# Altium schematic symbol library SIM900D.SchLib: 1 symbol
Pins are listed as number, name and electrical type; pins without a type are passive.

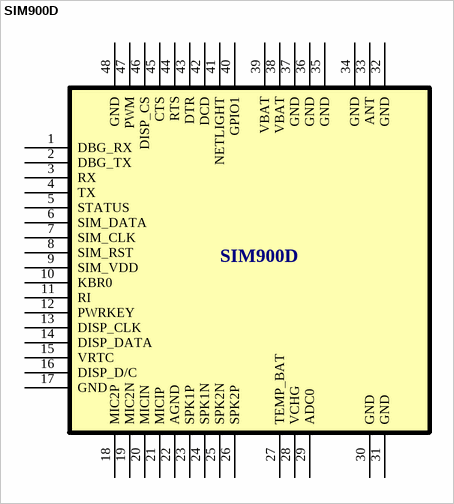
[diagram p0: symbol SIM900D]

## SIM900D
designator *  (value not drawn)
pins: 1 DBG_RX, 2 DBG_TX, 3 RX, 4 TX, 5 STATUS, 6 SIM_DATA, 7 SIM_CLK, 8 SIM_RST, 9 SIM_VDD, 10 KBR0, 11 RI, 12 PWRKEY, 13 DISP_CLK, 14 DISP_DATA, 15 VRTC, 16 DISP_D/C, 17 GND, 18 MIC2P, 19 MIC2N, 20 MICIN, 21 MICIP, 22 AGND, 23 SPK1P, 24 SPK1N, 25 SPK2N, 26 SPK2P, 27 TEMP_BAT, 28 VCHG, 29 ADC0, 30 GND, 31 GND, 32 GND, 33 ANT, 34 GND, 35 GND, 36 GND, 37 GND, 38 VBAT, 39 VBAT, 40 GPIO1, 41 NETLIGHT, 42 DCD, 43 DTR, 44 RTS, 45 CTS, 46 DISP_CS, 47 PWM, 48 GND